# EAGLE library part SM14B-SSR-H-TB (library con-jst2)
Disconnectable Insulation displacement connector, 1.0mm pitch 14 contacts
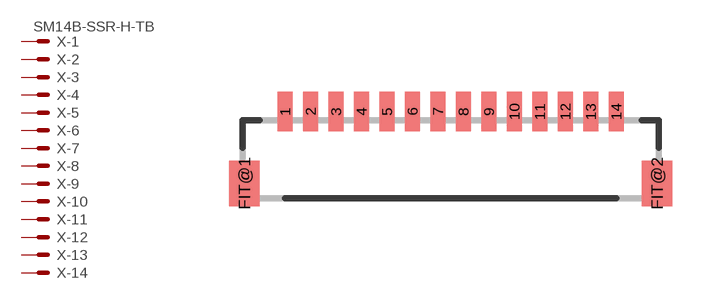
[diagram p40: symbol with the pads of SM14B-SSR-H-TB; footprint SM14B-SSR-H-TB]

Designator prefix X; gates -1=KV -2=K -3=K -4=K -5=K -6=K -7=K -8=K -9=K -10=K -11=K -12=K -13=K -14=K

## SM14B-SSR-H-TB  [SM14B-SSR-H-TB]
1  -1:S  pas
2  -2:S  pas
3  -3:S  pas
4  -4:S  pas
5  -5:S  pas
6  -6:S  pas
7  -7:S  pas
8  -8:S  pas
9  -9:S  pas
10  -10:S  pas
11  -11:S  pas
12  -12:S  pas
13  -13:S  pas
14  -14:S  pas

## Footprint SM14B-SSR-H-TB (pad centres in mm)
Shrouded Header
smd 0.6 x 1.55: 1 -6.5,1.925; 2 -5.5,1.925; 3 -4.5,1.925; 4 -3.5,1.925; 5 -2.5,1.925; 6 -1.5,1.925; 7 -0.5,1.925; 8 0.5,1.925; 9 1.5,1.925; 10 2.5,1.925; 11 3.5,1.925; 12 4.5,1.925; 13 5.5,1.925; 14 6.5,1.925
smd 1.2 x 1.8: FIT@1 -8.1,-0.9; FIT@2 8.1,-0.9